# EAGLE library part SI7234DP (library biomimetic)
Vishay Siliconix Dual N-Channel 12-V (D-S) MOSFET
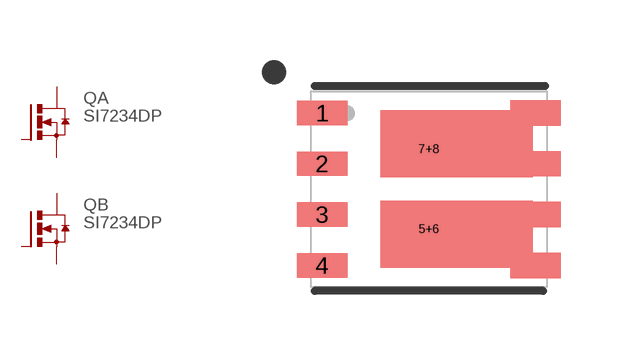
[diagram p20: symbol with the pads of POWERPAK-SO-8-DUAL; footprint POWERPAK-SO-8-DUAL]

Designator prefix Q; gates A=N-MOSFET B=N-MOSFET

## SI7234DP  [POWERPAK-SO-8-DUAL]
1  A:S  pas
2  A:G  pas
3  B:S  pas
4  B:G  pas
5+6  B:D  pas
7+8  A:D  pas

## Footprint POWERPAK-SO-8-DUAL (pad centres in mm)
smd 1.27 x 0.61: 1 -2.67,1.905; 2 -2.67,0.635; 3 -2.67,-0.635; 4 -2.67,-1.905
smd 0.5 x 0.5: 5+6 0,-1; 7+8 0,1